# EAGLE library part KAYO_DOMINO_13P_5M (library kxnStandard_connector)
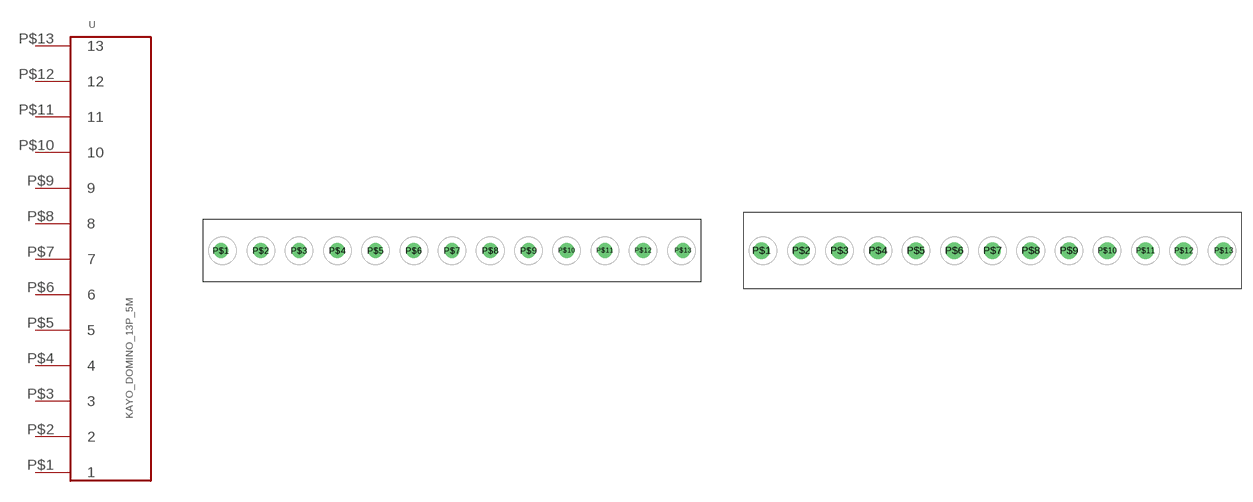
[diagram p19: symbol with the pads of KF127-5.0-13P; footprints KF127-5.0-13P, KF128-5.0-13P]

Designator prefix -

## KAYO_DOMINO_13P_5M_KF127_5.0_13P (CC_SHOP: CongCo)  [KF127-5.0-13P]
P$1  1
P$2  2
P$3  3
P$4  4
P$5  5
P$6  6
P$7  7
P$8  8
P$9  9
P$10  10
P$11  11
P$12  12
P$13  13

## KAYO_DOMINO_13P_5M_KF128_5.0_13P (CC_SHOP: CongCo)  [KF128-5.0-13P]
Pads as for KF127-5.0-13P

## Footprint KF127-5.0-13P (pad centres in mm)
drill 1 pad 1.93: P$1 -30.22,0; P$2 -25,0; P$3 -20,0; P$4 -15,0; P$5 -10,0; P$6 -5,0; P$7 0,0; P$8 5,0; P$9 10,0; P$10 15,0; P$11 20,0; P$12 25,0; P$13 30.22,0

## Footprint KF128-5.0-13P (pad centres in mm)
drill 1.1 pad 2.184: P$1 -30.22,0; P$2 -25,0; P$3 -20,0; P$4 -15,0; P$5 -10,0; P$6 -5,0; P$7 0,0; P$8 5,0; P$9 10,0; P$10 15,0; P$11 20,0; P$12 25,0; P$13 30.22,0